# Altium footprint library MCP7940NT-I_MS.PcbLib: 2 footprints
Each footprint in its own frame and in the unit in brackets; x right, y up, seen from the top. Pads: shape width x height; smd on the part's side, far side on the other; paste and mask are expansions set on the pad; w line width, h text height; cw(c..) or ccw(c..) is an arc to the next point about the centre after c.
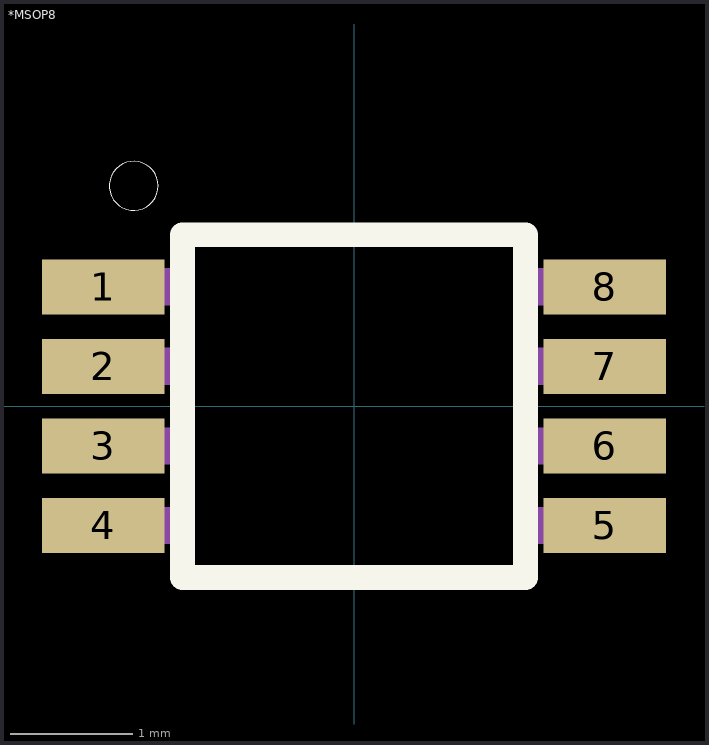
[diagram p0: the footprints below, top view; thin cyan lines are the x and y axes]

## *MSOP8 [mm]
pads (8):
  rect 1x0.45 smd: 1(-2.05,0.975) 2(-2.05,0.325) 3(-2.05,-0.325) 4(-2.05,-0.975) 5(2.05,-0.975) 6(2.05,-0.325) 7(2.05,0.325) 8(2.05,0.975)
Top Overlay:
  circle w0: c-1.8,1.8 r0.2
  lines w0.203: -1.4,-1.4 -1.4,1.4 1.4,1.4 1.4,-1.4 -1.4,-1.4
Top Solder:
  region: 1.525,0.725 1.525,1.225 2.6,1.225 2.6,0.725
  region: 1.525,0.075 1.525,0.575 2.6,0.575 2.6,0.075
  region: 1.525,-0.575 1.525,-0.075 2.6,-0.075 2.6,-0.575
  region: 1.525,-1.225 1.525,-0.725 2.6,-0.725 2.6,-1.225
  region: -1.525,-0.725 -1.525,-1.225 -2.6,-1.225 -2.6,-0.725
  region: -1.525,-0.075 -1.525,-0.575 -2.6,-0.575 -2.6,-0.075
  region: -1.525,0.575 -1.525,0.075 -2.6,0.075 -2.6,0.575
  region: -1.525,1.225 -1.525,0.725 -2.6,0.725 -2.6,1.225
Mechanical 4:
  region: 2.45,1.125 2.45,0.825 1.5,0.825 1.5,1.125
  region: 2.45,0.475 2.45,0.175 1.5,0.175 1.5,0.475
  region: 2.45,-0.175 2.45,-0.475 1.5,-0.475 1.5,-0.175
  region: 2.45,-0.825 2.45,-1.125 1.5,-1.125 1.5,-0.825
  region: -1.5,-0.825 -1.5,-1.125 -2.45,-1.125 -2.45,-0.825
  region: -1.5,-0.175 -1.5,-0.475 -2.45,-0.475 -2.45,-0.175
  region: -1.5,0.475 -1.5,0.175 -2.45,0.175 -2.45,0.475
  region: -1.5,1.125 -1.5,0.825 -2.45,0.825 -2.45,1.125
  region: 2.45,1.125 2.45,0.825 1.5,0.825 1.5,1.125
  region: 2.45,0.475 2.45,0.175 1.5,0.175 1.5,0.475
  region: 2.45,-0.175 2.45,-0.475 1.5,-0.475 1.5,-0.175
  region: 2.45,-0.825 2.45,-1.125 1.5,-1.125 1.5,-0.825
  region: -1.5,-0.825 -1.5,-1.125 -2.45,-1.125 -2.45,-0.825
  region: -1.5,-0.175 -1.5,-0.475 -2.45,-0.475 -2.45,-0.175
  region: -1.5,0.475 -1.5,0.175 -2.45,0.175 -2.45,0.475
  region: -1.5,1.125 -1.5,0.825 -2.45,0.825 -2.45,1.125

## PCBComponent_1 [mm]